# EAGLE library part CAT24C256 (library thanics_robotics)
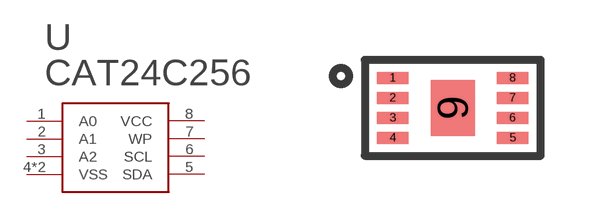
[diagram p32: symbol with the pads of UDFN8_3X2; footprint UDFN8_3X2]

Designator prefix -

## CAT24C256  [UDFN8_3X2]
1  A0
2  A1
3  A2
4  VSS
5  SDA
6  SCL
7  WP
8  VCC
9  VSS

## Footprint UDFN8_3X2 (pad centres in mm)
smd 0.78 x 0.3: 1 -1.5,0.75; 2 -1.5,0.25; 3 -1.5,-0.25; 4 -1.5,-0.75; 5 1.5,-0.75; 6 1.5,-0.25; 7 1.5,0.25; 8 1.5,0.75
smd 1.1 x 1.4: 9 0,0